# Altium footprint library PcbLib.PcbLib: 50 footprints (part 2 of 4)
Each footprint in its own frame and in the unit in brackets; x right, y up, seen from the top. Pads: shape width x height; smd on the part's side, far side on the other; paste and mask are expansions set on the pad; w line width, h text height; cw(c..) or ccw(c..) is an arc to the next point about the centre after c.
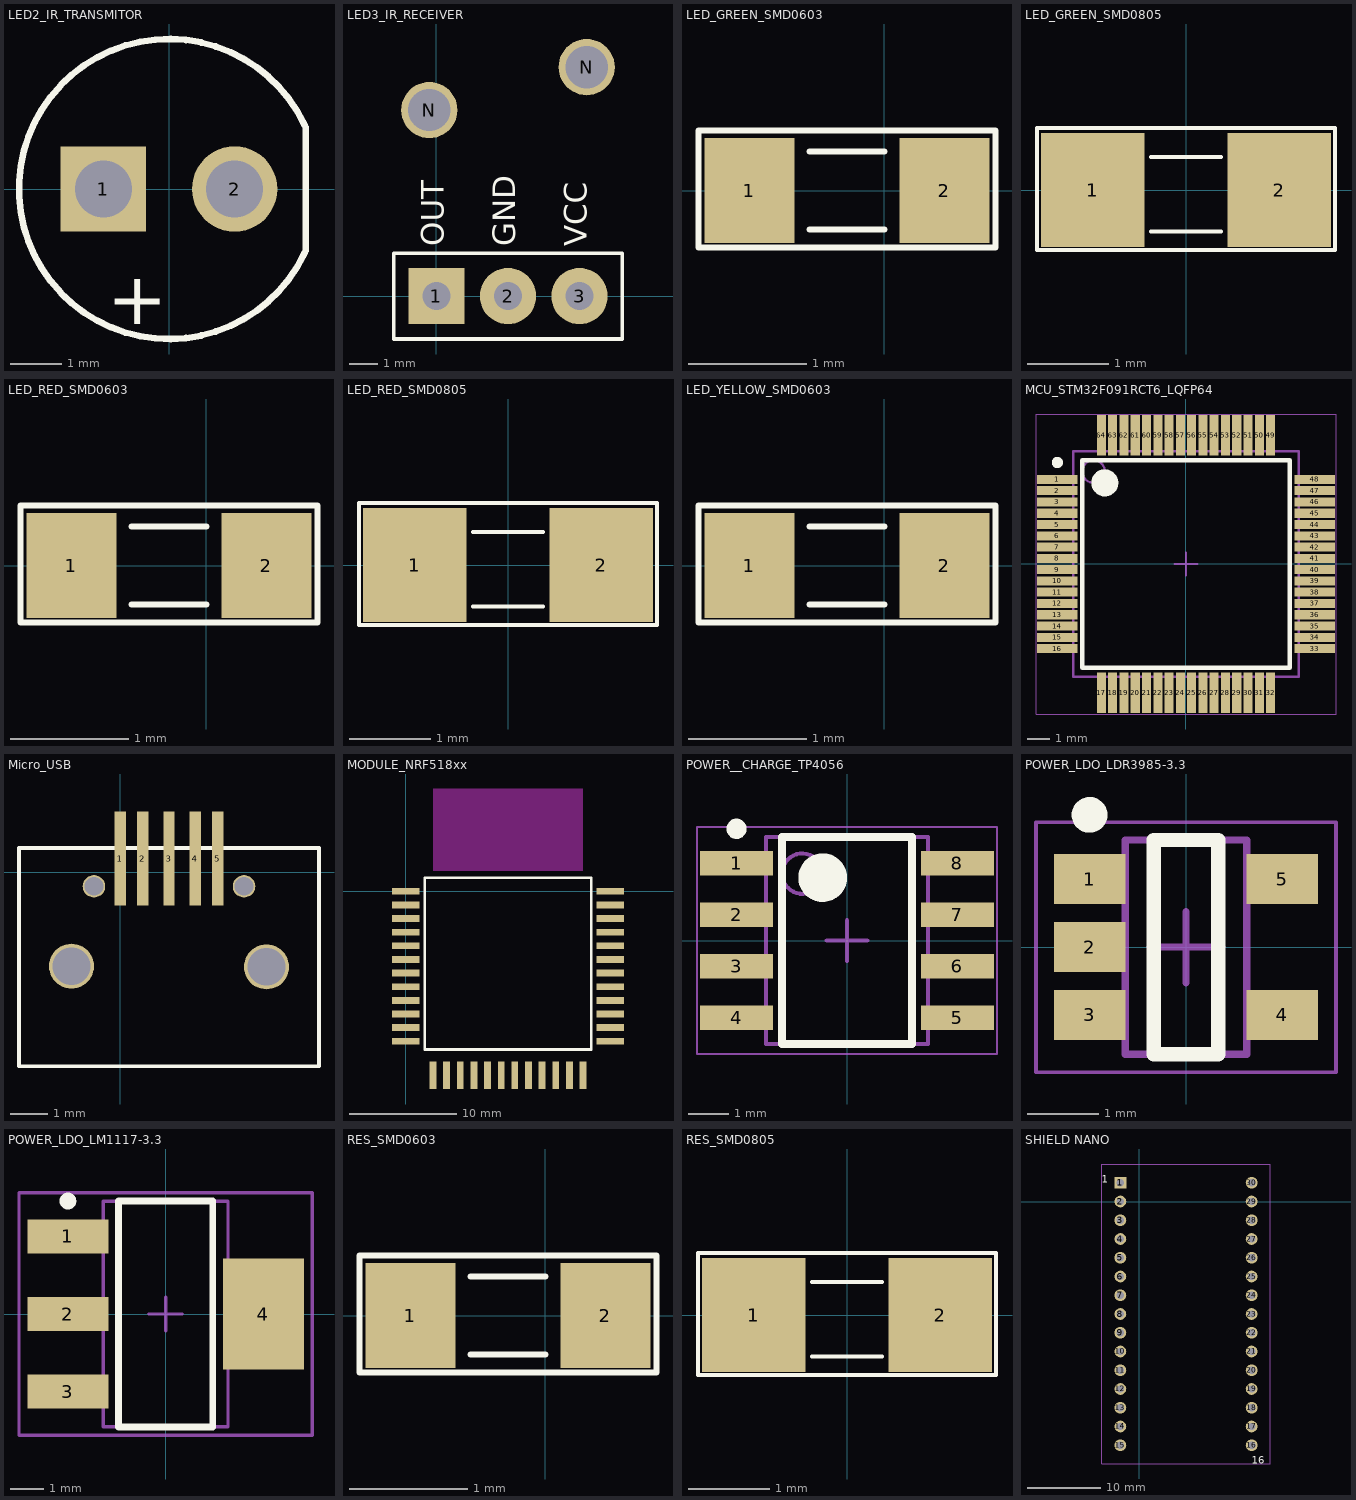
[diagram p1: the footprints below, top view; thin cyan lines are the x and y axes]

## LED2_IR_TRANSMITOR [mil] "LED phi 5mm"
height 649.61
pads (2):
  rect 65x65 hole 43.31: 1(-50,0)
  round 65 hole 43.31: 2(50,0)
Top Overlay:
  lines w5: 103.49,-48.23 cw(c0,0) 103.49,48.23 ; 104,-47 104,46.9
  text "+" at -47,-103 h40
3D body "User Library-LED5MM.step": height 496.06, standoff -118.11, extent -116.14,-118.13 116.14,114.15

## LED3_IR_RECEIVER [mm] "HEADER, SINGLE, DISTANCE = 100mil"
pads (5):
  rect 2x2 hole 1: 1(0,0)
  round 2 hole 1: 2(2.54,0) 3(5.08,0)
  round 2 hole 1.5: N(-0.254,6.604) N(5.334,8.128)
Top Overlay:
  lines w0.127: -1.524,-1.524 6.604,-1.524 6.604,1.524 -1.524,1.524 -1.524,-1.524
  text "OUT" at 0.254,1.778 h0.8
  text "GND" at 2.794,1.778 h0.8
  text "VCC" at 5.334,1.778 h0.8
3D body "User Library-GP1UE26.step": height 7.1, standoff -3.6, extent -0.704,-0.328 6.096,9.472

## LED_GREEN_SMD0603 [mil] "Compoment SMD 60x30mil"
height 50
pads (2):
  rect 30x35 smd: 1(-45,0) 2(20,0)
Top Overlay:
  lines w2: -25,-13 0,-13 ; -25,13 0,13 ; -62,-19 -52.75,-19 -0.25,-19 37,-19 37,20 -62,20 -62,-19
3D body "User Library-LED_0603_G.STEP": height 23.62, standoff -0.08, extent -46.49,-15.74 16.51,15.75

## LED_GREEN_SMD0805 [mil] "Compoment SMD 80x50mil"
height 50
pads (2):
  rect 50x55 smd: 1(-45,0) 2(45,0)
Top Overlay:
  lines w2: -17,-20 17,-20 ; -17,16 17,16 ; -72,-29 -72,30 72,30 72,-29 -72,-29
3D body "SML-210PTT86.stp": height 31.5, standoff 0, extent -39.36,-24.6 39.38,24.61

## LED_RED_SMD0603 [mil] "Compoment SMD 60x30mil"
height 50
pads (2):
  rect 30x35 smd: 1(-45,0) 2(20,0)
Top Overlay:
  lines w2: -25,-13 0,-13 ; -25,13 0,13 ; -62,-19 -62,20 37,20 37,-19 -0.25,-19 -52.75,-19 -62,-19
3D body "User Library-LED_0603_R.STEP": height 23.62, standoff -0.08, extent -46.49,-15.74 16.51,15.75

## LED_RED_SMD0805 [mil] "Compoment SMD 80x50mil"
height 50
pads (2):
  rect 50x55 smd: 1(-45,0) 2(45,0)
Top Overlay:
  lines w2: -17,-20 17,-20 ; -17,16 17,16 ; -72,-29 72,-29 72,30 -72,30 -72,-29
3D body "User Library-CHIPLED-0805.step": height 35.43, standoff -0.39, extent -41.34,-26.57 41.34,26.58

## LED_YELLOW_SMD0603 [mil] "Compoment SMD 60x30mil"
height 50
pads (2):
  rect 30x35 smd: 1(-45,0) 2(20,0)
Top Overlay:
  lines w2: -25,-13 0,-13 ; -25,13 0,13 ; -62,-19 -62,20 37,20 37,-19 -0.25,-19 -52.75,-19 -62,-19
3D body "User Library-LED_0603_Y.STEP": height 23.62, standoff -0.08, extent -46.49,-15.74 16.51,15.75

## MCU_STM32F091RCT6_LQFP64 [mm] "STM32F091RCT6 LQFP64"
height 1.6
pads (64):
  rect 1.8x0.4 smd: 1(-5.7,3.75) 2(-5.7,3.25) 3(-5.7,2.75) 4(-5.7,2.25) 5(-5.7,1.75) 6(-5.7,1.25) 7(-5.7,0.75) 8(-5.7,0.25) 9(-5.7,-0.25) 10(-5.7,-0.75) 11(-5.7,-1.25) 12(-5.7,-1.75) 13(-5.7,-2.25) 14(-5.7,-2.75) 15(-5.7,-3.25) 16(-5.7,-3.75) 33(5.7,-3.75) 34(5.7,-3.25) 35(5.7,-2.75) 36(5.7,-2.25) 37(5.7,-1.75) 38(5.7,-1.25) 39(5.7,-0.75) 40(5.7,-0.25) 41(5.7,0.25) 42(5.7,0.75) 43(5.7,1.25) 44(5.7,1.75) 45(5.7,2.25) 46(5.7,2.75) 47(5.7,3.25) 48(5.7,3.75)
  rect 0.4x1.8 smd: 17(-3.75,-5.7) 18(-3.25,-5.7) 19(-2.75,-5.7) 20(-2.25,-5.7) 21(-1.75,-5.7) 22(-1.25,-5.7) 23(-0.75,-5.7) 24(-0.25,-5.7) 25(0.25,-5.7) 26(0.75,-5.7) 27(1.25,-5.7) 28(1.75,-5.7) 29(2.25,-5.7) 30(2.75,-5.7) 31(3.25,-5.7) 32(3.75,-5.7) 49(3.75,5.7) 50(3.25,5.7) 51(2.75,5.7) 52(2.25,5.7) 53(1.75,5.7) 54(1.25,5.7) 55(0.75,5.7) 56(0.25,5.7) 57(-0.25,5.7) 58(-0.75,5.7) 59(-1.25,5.7) 60(-1.75,5.7) 61(-2.25,5.7) 62(-2.75,5.7) 63(-3.25,5.7) 64(-3.75,5.7)
Top Overlay:
  circle w0.6: c-3.6,3.6 r0.3
  circle w0.25: c-5.7,4.5 r0.125
  lines w0.2: -4.6,-4.6 4.6,-4.6 4.6,4.6 -4.6,4.6 -4.6,-4.6
Mechanical 13:
  circle w0.1: c-4.1,4.1 r0.5
  lines w0.1: -5,-5 5,-5 5,5 -5,5 -5,-5
Mechanical 15:
  lines w0.05: -6.65,-6.65 6.65,-6.65 6.65,6.65 -6.65,6.65 -6.65,-6.65
  lines w0.1: -0.5,0 0.5,0 ; 0,-0.5 0,0.5
3D body "User Library-LQFP64_Grid_0_5.STEP": height 1.6, standoff 0, extent -6,-6 6,6

## Micro_USB [mm]
pads (9):
  rect 0.3x2.5 smd mask+0.05: 1(0,0.37) 2(0.6,0.37) 3(1.3,0.37) 4(2,0.37) 5(2.6,0.37)
  round 1.2 hole 1 mask+0.05: ""(-1.3,-2.5) ""(3.9,-2.52)
  round 0.6 hole 0.5 mask+0.05: ""(-0.7,-0.37) ""(3.3,-0.37)
Top Overlay:
  lines w0.1: -2.7,-5.17 5.3,-5.17 5.3,0.65 -2.7,0.65 -2.7,-5.17
3D body "User Library-10104111.STEP": height 2.77, standoff -0.3, extent -3.1,-5.116 5.7,0.509

## MODULE_NRF518xx [mm] "MODULE BLE NRF51822 Madeby TUAN ANH"
pads (36):
  rect 2.54x0.635 smd: 1(0,0) 2(0,-1.27) 3(0,-2.54) 4(0,-3.81) 5(0,-5.08) 6(0,-6.35) 7(0,-7.62) 8(0,-8.89) 9(0,-10.16) 10(0,-11.43) 11(0,-12.7) 12(0,-13.97) 25(19.05,-13.97) 26(19.05,-12.7) 27(19.05,-11.43) 28(19.05,-10.16) 29(19.05,-8.89) 30(19.05,-7.62) 31(19.05,-6.35) 32(19.05,-5.08) 33(19.05,-3.81) 34(19.05,-2.54) 35(19.05,-1.27) 36(19.05,0)
  rect 0.635x2.54 smd: 13(2.54,-17.145) 14(3.81,-17.145) 15(5.08,-17.145) 16(6.35,-17.145) 17(7.62,-17.145) 18(8.89,-17.145) 19(10.16,-17.145) 20(11.43,-17.145) 21(12.7,-17.145) 22(13.97,-17.145) 23(15.24,-17.145) 24(16.51,-17.145)
Top Overlay:
  lines w0.254: 1.778,-14.732 1.778,1.27 17.272,1.27 17.272,-14.732 1.778,-14.732
Keep-Out Layer:
  region: 2.54,9.525 2.54,1.905 16.51,1.905 16.51,9.525

## POWER__CHARGE_TP4056 [mm] "SOP, 8-Leads, Body 4.90x3.90mm, Pitch 1.27mm, IPC Medium Density"
height 1.75
pads (8):
  rect 1.8x0.6 smd: 1(-2.725,1.905) 2(-2.725,0.635) 3(-2.725,-0.635) 4(-2.725,-1.905) 5(2.725,-1.905) 6(2.725,-0.635) 7(2.725,0.635) 8(2.725,1.905)
Top Overlay:
  circle w0.25: c-2.725,2.755 r0.125
  circle w0.6: c-0.6,1.55 r0.3
  lines w0.2: -1.6,-2.55 -1.6,2.55 1.6,2.55 1.6,-2.55 -1.6,-2.55
Mechanical 13:
  circle w0.1: c-1.1,1.65 r0.5
  lines w0.1: -2,-2.55 -2,2.55 2,2.55 2,-2.55 -2,-2.55
Mechanical 15:
  lines w0.05: -3.7,-2.8 -3.7,2.8 3.7,2.8 3.7,-2.8 -3.7,-2.8
  lines w0.1: -0.5,0 0.5,0 ; 0,-0.5 0,0.5
3D body "User Library-sop-8.step": height 1.6, standoff 0, extent -3.021,-2.51 3.021,2.51

## POWER_LDO_LDR3985-3.3 [mm] "SOT23, 5-Leads, Body 2.90x2.80mm, Pitch 0.95mm, IPC Medium Density"
height 0.9
pads (5):
  rect 1x0.7 smd: 1(-1.35,0.95) 2(-1.35,0) 3(-1.35,-0.95) 4(1.35,-0.95) 5(1.35,0.95)
Top Overlay:
  circle w0.25: c-1.35,1.85 r0.125
  lines w0.2: -0.45,-1.5 -0.45,1.5 0.45,1.5 0.45,-1.5 -0.45,-1.5
Mechanical 13:
  lines w0.1: -0.85,-1.5 0.85,-1.5 0.85,1.5 -0.85,1.5 -0.85,-1.5
Mechanical 15:
  lines w0.05: -2.1,-1.75 2.1,-1.75 2.1,1.75 -2.1,1.75 -2.1,-1.75
  lines w0.1: -0.5,0 0.5,0 ; 0,-0.5 0,0.5
3D body: height 0.9, standoff 0.05, extent -0.85,-1.5 0.85,1.5

## POWER_LDO_LM1117-3.3 [mm] "SOT223, 4-Leads, Body 6.5x3.5mm, Pitch 2.3mm, Lead Span 7mm, IPC Medium Density"
height 1.8
pads (4):
  rect 2.4x1 smd: 1(-2.9,2.3) 2(-2.9,0) 3(-2.9,-2.3)
  rect 2.4x3.3 smd: 4(2.9,0)
Top Overlay:
  circle w0.25: c-2.9,3.35 r0.125
  lines w0.2: -1.4,-3.35 -1.4,3.35 1.4,3.35 1.4,-3.35 -1.4,-3.35
Mechanical 13:
  lines w0.1: -1.85,-3.35 -1.85,3.35 1.85,3.35 1.85,-3.35 -1.85,-3.35
Mechanical 15:
  lines w0.1: -0.5,0 0.5,0 ; 0,-0.5 0,0.5 ; -4.35,-3.6 -4.35,3.6 4.35,3.6 4.35,-3.6 -4.35,-3.6
3D body: height 1.8, standoff 0, extent -1.85,-3.35 1.85,3.35

## RES_SMD0603 [mil] "Compoment SMD 60x30mil"
height 50
pads (2):
  rect 30x35 smd: 1(-45,0) 2(20,0)
Top Overlay:
  lines w2: -25,-13 0,-13 ; -25,13 0,13 ; -62,-19 -52.75,-19 -0.25,-19 37,-19 37,20 -62,20 -62,-19
3D body "SW3DPS-RESISTOR 0603-DEFAULT.STEP": height 18.9, standoff -1.18, extent -46.49,-16.92 16.51,16.93

## RES_SMD0805 [mil] "Compoment SMD 80x50mil"
height 50
pads (2):
  rect 50x55 smd: 1(-45,0) 2(45,0)
Top Overlay:
  lines w2: -17,-20 17,-20 ; -17,16 17,16 ; -72,-29 -72,30 72,30 72,-29 -72,-29
3D body "SW3dPS-smt_resistor_packages.STEP": height 24.02, standoff -0.39, extent -39.76,-27 39.77,23

## SHIELD NANO [mm]
pads (30):
  rect 1.6x1.6 hole 1: 1(-2.54,2.54)
  round 1.6 hole 1: 2(-2.54,0) 3(-2.54,-2.54) 4(-2.54,-5.08) 5(-2.54,-7.62) 6(-2.54,-10.16) 7(-2.54,-12.7) 8(-2.54,-15.24) 9(-2.54,-17.78) 10(-2.54,-20.32) 11(-2.54,-22.86) 12(-2.54,-25.4) 13(-2.54,-27.94) 14(-2.54,-30.48) 15(-2.54,-33.02) 16(15.24,-33.02) 17(15.24,-30.48) 18(15.24,-27.94) 19(15.24,-25.4) 20(15.24,-22.86) 21(15.24,-20.32) 22(15.24,-17.78) 23(15.24,-15.24) 24(15.24,-12.7) 25(15.24,-10.16) 26(15.24,-7.62) 27(15.24,-5.08) 28(15.24,-2.54) 29(15.24,0) 30(15.24,2.54)
Top Overlay:
  text "16" at 15.24,-35.56 h1
  text "1" at -5.08,2.54 h1
Mechanical 1:
  lines w0.1: -5.08,-35.56 17.78,-35.56 17.78,5.08 -5.08,5.08 -5.08,-35.56